# EAGLE library part SAM4LC8AA (library BQ25504)
Atmel SAM4L microcontroller. ARM Cortex M4 with 512 KB Flash and 64 KB RAM
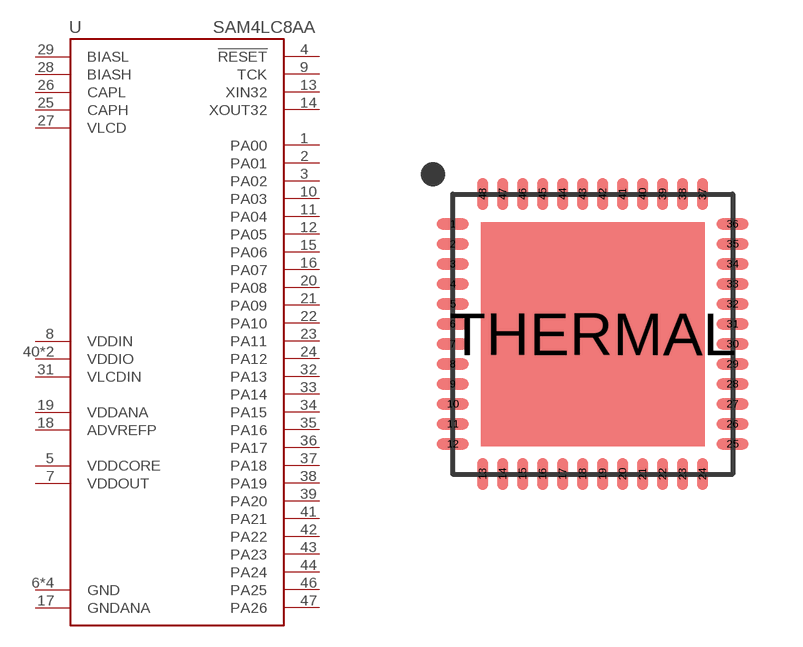
[diagram p47: symbol with the pads of QFN-48-7MM; footprint QFN-48-7MM]

Designator prefix U

## SAM4LC8AA (DIGIKEY: ATSAM4LC8AA-MU-ND; MANUFACTURER: Microchip Technology; MPN: ATSAM4LC8AA-MU)  [QFN-48-7MM]
1  PA00
2  PA01
3  PA02
4  !RESET
5  VDDCORE  pwr
6  GND  pwr
7  VDDOUT  pwr
8  VDDIN  pwr
9  TCK
10  PA03
11  PA04
12  PA05
13  XIN32
14  XOUT32
15  PA06
16  PA07
17  GNDANA  pwr
18  ADVREFP
19  VDDANA  pwr
20  PA08
21  PA09
22  PA10
23  PA11
24  PA12
25  CAPH
26  CAPL
27  VLCD
28  BIASH
29  BIASL
30  GND  pwr
31  VLCDIN  pwr
32  PA13
33  PA14
34  PA15
35  PA16
36  PA17
37  PA18
38  PA19
39  PA20
40  VDDIO  pwr
41  PA21
42  PA22
43  PA23
44  PA24
45  VDDIO  pwr
46  PA25
47  PA26
48  GND  pwr
THERMAL  GND  pwr

## Footprint QFN-48-7MM (pad centres in mm)
7MM x 7MM 48 QFN package
smd 0.8 x 0.28: 1 -3.5,2.75; 2 -3.5,2.25; 3 -3.5,1.75; 4 -3.5,1.25; 5 -3.5,0.75; 6 -3.5,0.25; 7 -3.5,-0.25; 8 -3.5,-0.75; 9 -3.5,-1.25; 10 -3.5,-1.75; 11 -3.5,-2.25; 12 -3.5,-2.75; 25 3.5,-2.75; 26 3.5,-2.25; 27 3.5,-1.75; 28 3.5,-1.25; 29 3.5,-0.75; 30 3.5,-0.25; 31 3.5,0.25; 32 3.5,0.75; 33 3.5,1.25; 34 3.5,1.75; 35 3.5,2.25; 36 3.5,2.75
smd 0.28 x 0.8: 13 -2.75,-3.5; 14 -2.25,-3.5; 15 -1.75,-3.5; 16 -1.25,-3.5; 17 -0.75,-3.5; 18 -0.25,-3.5; 19 0.25,-3.5; 20 0.75,-3.5; 21 1.25,-3.5; 22 1.75,-3.5; 23 2.25,-3.5; 24 2.75,-3.5; 37 2.75,3.5; 38 2.25,3.5; 39 1.75,3.5; 40 1.25,3.5; 41 0.75,3.5; 42 0.25,3.5; 43 -0.25,3.5; 44 -0.75,3.5; 45 -1.25,3.5; 46 -1.75,3.5; 47 -2.25,3.5; 48 -2.75,3.5
smd 5.6 x 5.6: THERMAL 0,0